# Altium integrated library PCB_Project.IntLib: 11 symbols
Pins are listed as number, name and electrical type; pins without a type are passive.

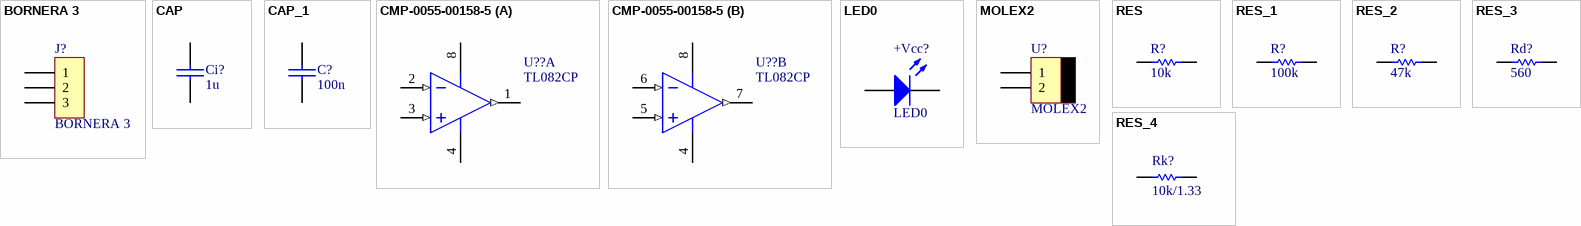
[diagram p0: symbols BORNERA 3 to RES_4]

## BORNERA 3
designator J?
footprint BORNERA3 (Bornera con Tornillos 5mm separación)
pins: 1, 2, 3

## CAP
designator Ci?, comment 1u
footprint 0805 (Pasivo 0805)
footprint 1206 (Pasivo 1206)
footprint 0603 (Footprint not found)
footprint CAP200
footprint CAP100
pins: 1, 2

## CAP_1
designator C?, comment 100n
footprint 0805 (Pasivo 0805)
footprint 1206 (Pasivo 1206)
footprint 0603 (Footprint not found)
footprint CAP200
footprint CAP100
pins: 1, 2

## CMP-0055-00158-5
designator U??, comment TL082CP
JFET-Input Operational Amplifier, 7 to 36 V, 0 to 70 degC, 8-pin DIP (P8), Pb-Free (RoHS); Manufacturer: Texas Instruments; Total Supply Voltage(Max)(+5V is 5, +/-5V is 10): 36; Rating: Catalog; Number of Channels: 2; Slew Rate(Typ)(V/us): 13; CMRR(Min)(dB): 70; Sub Family: General Purpose Amplifier, High Supply Voltage Amplifier (>=30V); Offset Drift(Typ)(uV/C): 18; Total Supply Voltage(Min)(+5V is 5, +/-5V is 10): 7; IIB(Max)(pA): 400; GBW(Typ)(MHz): 3; Iq per channel(Max)(mA): 2.8; Vio (25C)(Max)(mV): 15; PackageDescription: 8-Pin Plastic In-Line, Body 9.59 x 6.35 mm, Pitch 2.54 mm; ComponentLink2URL: http://www.ti.com/lit/ds/symlink/tl082.pdf; Mounting Technology: Through Hole; Code_JEDEC: MS-001; ComponentLink1Description: Manufacturer URL; ComponentLink3Description: Package Specification; PartNumber: TL082CP; PackageVersion: 4040082/E, 04/2010; Eco-Plan: Pb-Free (RoHS); ComponentLink1URL: http://www.ti.com/; PackageReference: P0008A; ComponentLink3URL: http://www.ti.com/litv/pdf/mpdi001b; DatasheetVersion: SLOS081G; ComponentLink2Description: Datasheet; Vn at 1kHz(Typ)(nV/rtHz): 18; Manufacturer Part Number: TL082CP
footprint P0008A (DIP, 8-Leads, Body 10.15x6.6mm, Pitch 2.54mm)
pins on every part: 4 VCC- (power), 8 VCC+ (power)
part A pins: 1 OUT1 (out), 2 IN1- (in), 3 IN1+ (in)
part B pins: 5 IN2+ (in), 6 IN2- (in), 7 OUT2 (out)

## LED0
designator +Vcc?
Typical INFRARED GaAs LED; Published: 8-Jun-2000; LatestRevisionDate: 08-Jul-2005; LatestRevisionNote: Mech Layer 1 removed.; PackageReference: LED-0; Publisher: Altium Limited; PackageDescription: LED; 2 Leads
footprint LED-0 (LED; 2 Leads)
simulation model LED0 (Diode)
pins: 1 A, 2 K

## MOLEX2
designator U?
footprint MOLEX2
pins: 1, 2

## RES
designator R?, comment 10k
footprint 0805 (Chip Resistor, 2-Leads, Body 0,8"x0,5" - 2,0x1,3mm, IPC High Density)
footprint RES400
footprint RES100
footprint RES300
footprint 1206 (Pasivo 1206)
footprint RES500
footprint RES600
footprint RES1200
pins: 1, 2

## RES_1
designator R?, comment 100k
footprint 0805 (Chip Resistor, 2-Leads, Body 0,8"x0,5" - 2,0x1,3mm, IPC High Density)
footprint RES400
footprint RES100
footprint RES300
footprint 1206 (Pasivo 1206)
footprint RES500
footprint RES600
footprint RES1200
pins: 1, 2

## RES_2
designator R?, comment 47k
footprint 0805 (Chip Resistor, 2-Leads, Body 0,8"x0,5" - 2,0x1,3mm, IPC High Density)
footprint RES400
footprint RES100
footprint RES300
footprint 1206 (Pasivo 1206)
footprint RES500
footprint RES600
footprint RES1200
pins: 1, 2

## RES_3
designator Rd?, comment 560
footprint 0805 (Chip Resistor, 2-Leads, Body 0,8"x0,5" - 2,0x1,3mm, IPC High Density)
footprint RES400
footprint RES100
footprint RES300
footprint 1206 (Pasivo 1206)
footprint RES500
footprint RES600
footprint RES1200
pins: 1, 2

## RES_4
designator Rk?, comment 10k/1.33
footprint 0805 (Chip Resistor, 2-Leads, Body 0,8"x0,5" - 2,0x1,3mm, IPC High Density)
footprint RES400
footprint RES100
footprint RES300
footprint 1206 (Pasivo 1206)
footprint RES500
footprint RES600
footprint RES1200
pins: 1, 2